# Altium schematic symbol library kmilo17pet-Maxim_Sensors.SchLib: 1172 symbols (part 29 of 61)
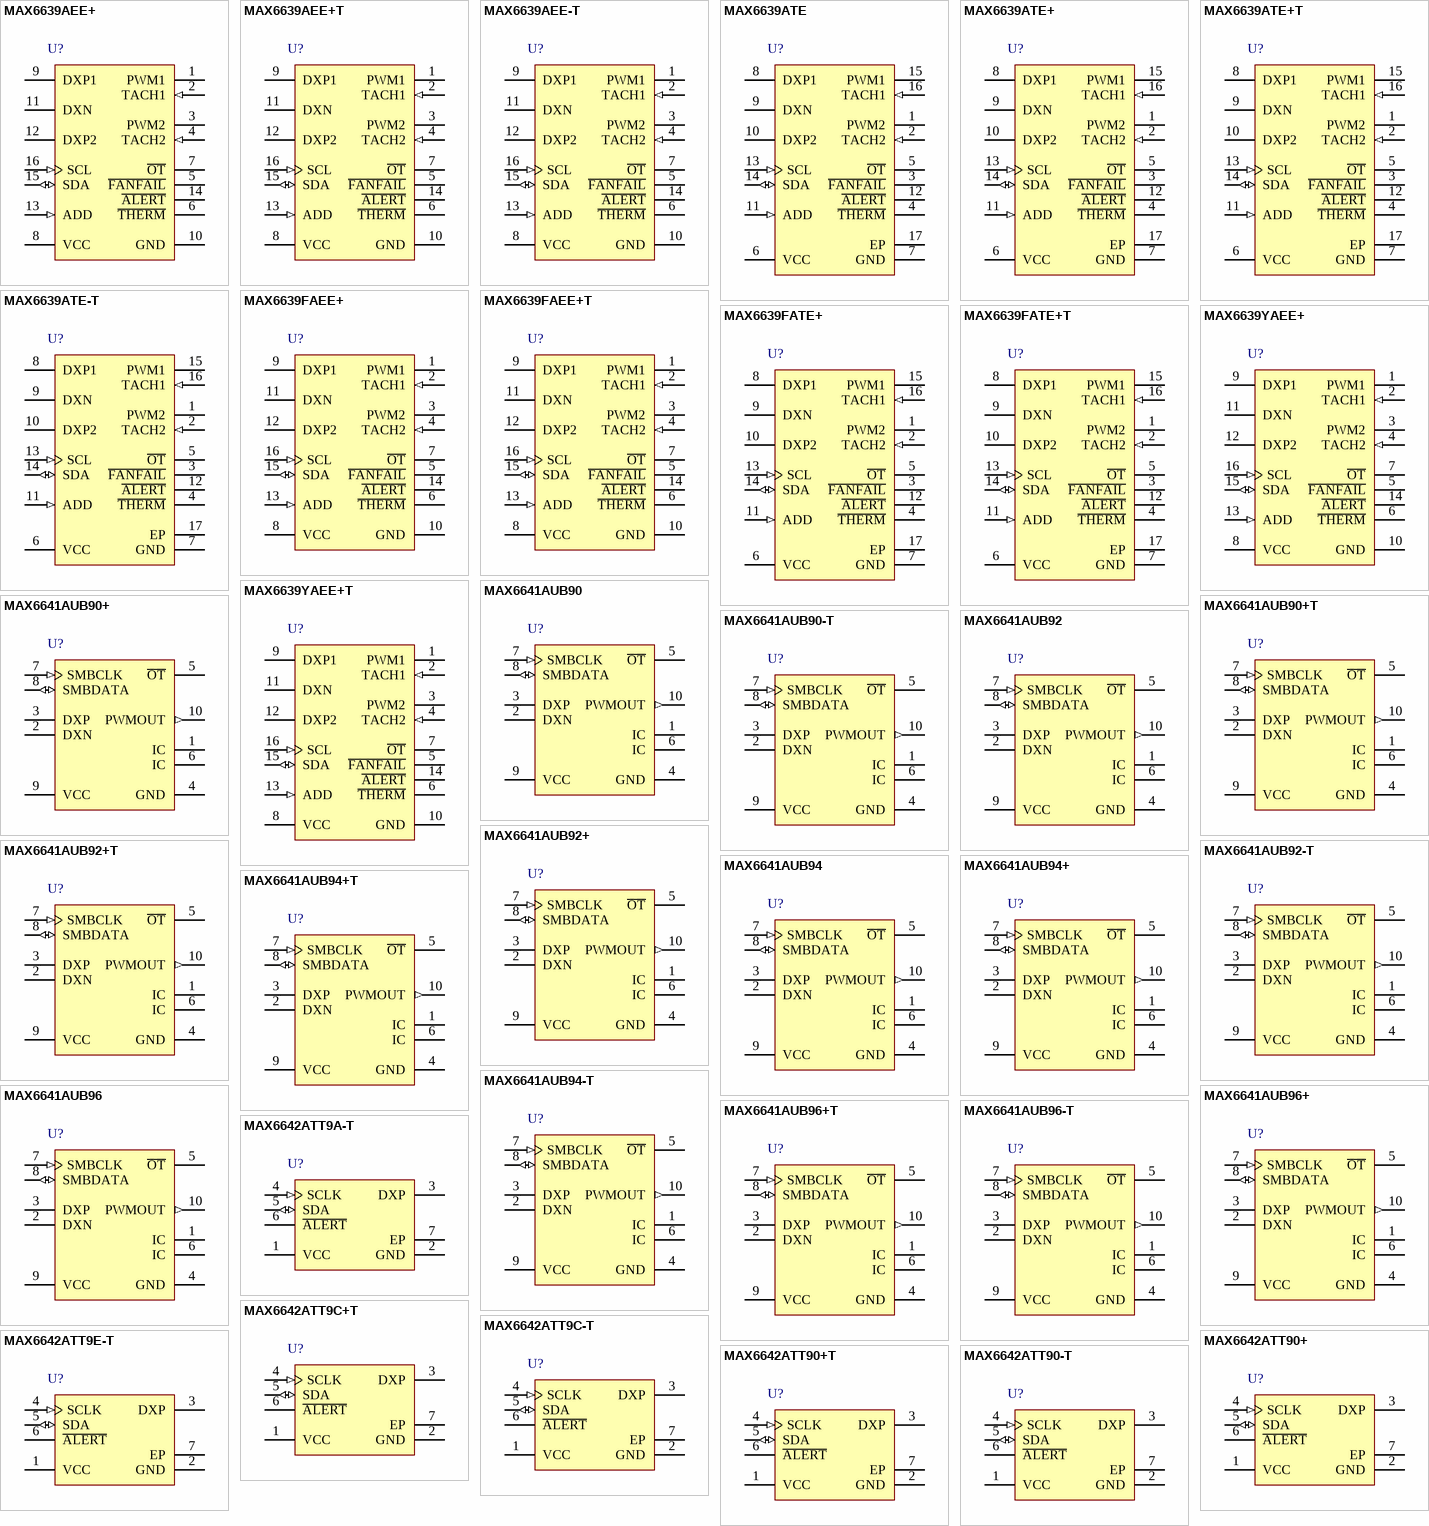
[diagram p61: symbols MAX6639AEE+ to MAX6642ATT90-T]

## MAX6639ATE
designator U?
2-Channel Temperature Monitor with Dual, Automatic, PWM Fan-Speed Controller, -40 to 125 degC, 16-Pin QFN (T1655-3); Generic Part Number: MAX6639; PartNumber: MAX6639ATE; Fan Controller Functions: Remote & Local Sensor; Interface: 2-Wire/I2C/SMBus; DatasheetVersion: Rev. 2; PackageVersion: Rev. Q, 09/2011; PackageReference: T1655-3; PackageDescription: 16-Pin Thin Quad Flatpack, No Leads, Body 5 x 5 mm, Pitch 0.8 mm; Supplier 1: Mouser; Supplier Part Number 1: N/A; Fan Cntrl.: PWM; Mounting Technology: Surface Mount; Code_JEDEC: MO220; ComponentLink1Description: Manufacturer URL; ComponentLink1URL: http://www.maximintegrated.com/; ComponentLink2Description: Datasheet; ComponentLink2URL: http://datasheets.maximintegrated.com/en/ds/MAX6639-MAX6639F.pdf; ComponentLink3Description: Package Specification; ComponentLink3URL: http://pdfserv.maximintegrated.com/package_dwgs/21-0140.PDF
footprint MAXM-T1655-3_N (QFN, 16-Leads, Body 5x5mm, Pitch 0.8mm, Thermal Pad 3.1x3.1mm, IPC Medium Density)
footprint MAXM-T1655-3_L (QFN, 16-Leads, Body 5x5mm, Pitch 0.8mm, Thermal Pad 3.1x3.1mm, IPC High Density)
footprint MAXM-T1655-3_M (QFN, 16-Leads, Body 5x5mm, Pitch 0.8mm, Thermal Pad 3.1x3.1mm, IPC Low Density)
pins: 1 PWM2 (oc) "Open-Drain Output to Power-Transistor Driving Fan. Connect to the gate of a MOSFET or base of a bipolar transistor. PWM_ requires a pullup resistor. The pullup resistor can be connected to a supply voltage as high as 13.5V, (See Datasheet)", 2 TACH2 (in) "Tachometer Inputs. Connect to the tachometer output of the fan. TACH_ requires a pullup resistor. The pullup resistor can be connected to a supply voltage as high as 13.5V, regardless of the MAX6639’s supply voltage.", 3 ~{FANFAIL} (oc) "Active-Low, Open-Drain, Fan-Failure Output. Open circuit when VCC = 0.", 4 ~{THERM} (oc) "Active-Low, Open-Drain Thermal Alarm Output. Typically used for clock throttling. Open circuit when VCC = 0.", 5 ~{OT} (oc) "Active-Low, Open-Drain Overtemperature Output. Typically used for system shutdown or clock throttling. Can be pulled up to 5.5V regardless of VCC. Open circuit when VCC = 0.", 6 VCC (power) "Power-Supply Input. 3.3V nominal. Bypass VCC to GND with a 0.1uF capacitor.", 7 GND (power) "Ground. Connect to a clean ground reference.", 8 DXP1 "Combined Current Source and A/D Positive Input for Remote Diode. Connect to anode of remote-diode-connected temperture-sensing transistor. Do not leave unconnected; connect to DXN if no remote diode is used. Place a 2200pF (See Datasheet)", 9 DXN "Remote Diode Current Sink Input. Connect Cathode of the Remote-Diode- Connected Transistor to DXN", 10 DXP2 "Combined Current Source and A/D Positive Input for Remote Diode. Connect to anode of remote-diode-connected temperture-sensing transistor. Do not leave unconnected; connect to DXN if no remote diode is used. Place a 2200pF (See Datasheet)", 11 ADD (in) "Address Input. Sets device slave address. Connect to GND, VCC, or leave unconnected to give three unique addresses. See Table 1.", 12 ~{ALERT} (oc) "Active-Low, Open-Drain SMBus Alert Output", 13 SCL (in) "SMBus Serial-Clock Input. Can be pulled up to 5.5V regardless of VCC. Open circuit when VCC = 0.", 14 SDA (io) "SMBus Serial-Data Input/Output, Open Drain. Can be pulled up to 5.5V regardless of VCC. Open circuit when VCC = 0.", 15 PWM1 (oc) "Open-Drain Output to Power-Transistor Driving Fan. Connect to the gate of a MOSFET or base of a bipolar transistor. PWM_ requires a pullup resistor. The pullup resistor can be connected to a supply voltage as high as 13.5V, (See Datasheet)", 16 TACH1 (in) "Tachometer Inputs. Connect to the tachometer output of the fan. TACH_ requires a pullup resistor. The pullup resistor can be connected to a supply voltage as high as 13.5V, regardless of the MAX6639’s supply voltage.", 17 EP (power) "Exposed Pad (TQFN package only). Internally connected to GND. Connect EP to a large PCB pad for optimum performance and enhanced thermal dissipation. Not intended as an electrical connection point."

## MAX6639ATE+
designator U?
2-Channel Temperature Monitor with Dual, Automatic, PWM Fan-Speed Controller, -40 to 125 degC, 16-Pin QFN (T1655+3), Pb-Free; Generic Part Number: MAX6639; PartNumber: MAX6639ATE+; Fan Controller Functions: Remote & Local Sensor; Interface: 2-Wire/I2C/SMBus; DatasheetVersion: Rev. 2; PackageVersion: Rev. Q, 09/2011; PackageReference: T1655+3; PackageDescription: 16-Pin Thin Quad Flatpack, No Leads, Body 5 x 5 mm, Pitch 0.8 mm; Supplier 1: Digi-Key; Supplier Part Number 1: MAX6639ATE+-ND; Supplier 2: Mouser; Supplier Part Number 2: 700-MAX6639ATE; Fan Cntrl.: PWM; Mounting Technology: Surface Mount; Code_JEDEC: MO220; ComponentLink1Description: Manufacturer URL; ComponentLink1URL: http://www.maximintegrated.com/; ComponentLink2Description: Datasheet; ComponentLink2URL: http://datasheets.maximintegrated.com/en/ds/MAX6639-MAX6639F.pdf; ComponentLink3Description: Package Specification; ComponentLink3URL: http://pdfserv.maximintegrated.com/package_dwgs/21-0140.PDF
footprint MAXM-T1655+3_N (QFN, 16-Leads, Body 5x5mm, Pitch 0.8mm, Thermal Pad 3.1x3.1mm, IPC Medium Density)
footprint MAXM-T1655+3_L (QFN, 16-Leads, Body 5x5mm, Pitch 0.8mm, Thermal Pad 3.1x3.1mm, IPC High Density)
footprint MAXM-T1655+3_M (QFN, 16-Leads, Body 5x5mm, Pitch 0.8mm, Thermal Pad 3.1x3.1mm, IPC Low Density)
pins: 1 PWM2 (oc) "Open-Drain Output to Power-Transistor Driving Fan. Connect to the gate of a MOSFET or base of a bipolar transistor. PWM_ requires a pullup resistor. The pullup resistor can be connected to a supply voltage as high as 13.5V, (See Datasheet)", 2 TACH2 (in) "Tachometer Inputs. Connect to the tachometer output of the fan. TACH_ requires a pullup resistor. The pullup resistor can be connected to a supply voltage as high as 13.5V, regardless of the MAX6639’s supply voltage.", 3 ~{FANFAIL} (oc) "Active-Low, Open-Drain, Fan-Failure Output. Open circuit when VCC = 0.", 4 ~{THERM} (oc) "Active-Low, Open-Drain Thermal Alarm Output. Typically used for clock throttling. Open circuit when VCC = 0.", 5 ~{OT} (oc) "Active-Low, Open-Drain Overtemperature Output. Typically used for system shutdown or clock throttling. Can be pulled up to 5.5V regardless of VCC. Open circuit when VCC = 0.", 6 VCC (power) "Power-Supply Input. 3.3V nominal. Bypass VCC to GND with a 0.1uF capacitor.", 7 GND (power) "Ground. Connect to a clean ground reference.", 8 DXP1 "Combined Current Source and A/D Positive Input for Remote Diode. Connect to anode of remote-diode-connected temperture-sensing transistor. Do not leave unconnected; connect to DXN if no remote diode is used. Place a 2200pF (See Datasheet)", 9 DXN "Remote Diode Current Sink Input. Connect Cathode of the Remote-Diode- Connected Transistor to DXN", 10 DXP2 "Combined Current Source and A/D Positive Input for Remote Diode. Connect to anode of remote-diode-connected temperture-sensing transistor. Do not leave unconnected; connect to DXN if no remote diode is used. Place a 2200pF (See Datasheet)", 11 ADD (in) "Address Input. Sets device slave address. Connect to GND, VCC, or leave unconnected to give three unique addresses. See Table 1.", 12 ~{ALERT} (oc) "Active-Low, Open-Drain SMBus Alert Output", 13 SCL (in) "SMBus Serial-Clock Input. Can be pulled up to 5.5V regardless of VCC. Open circuit when VCC = 0.", 14 SDA (io) "SMBus Serial-Data Input/Output, Open Drain. Can be pulled up to 5.5V regardless of VCC. Open circuit when VCC = 0.", 15 PWM1 (oc) "Open-Drain Output to Power-Transistor Driving Fan. Connect to the gate of a MOSFET or base of a bipolar transistor. PWM_ requires a pullup resistor. The pullup resistor can be connected to a supply voltage as high as 13.5V, (See Datasheet)", 16 TACH1 (in) "Tachometer Inputs. Connect to the tachometer output of the fan. TACH_ requires a pullup resistor. The pullup resistor can be connected to a supply voltage as high as 13.5V, regardless of the MAX6639’s supply voltage.", 17 EP (power) "Exposed Pad (TQFN package only). Internally connected to GND. Connect EP to a large PCB pad for optimum performance and enhanced thermal dissipation. Not intended as an electrical connection point."

## MAX6639ATE+T
designator U?
2-Channel Temperature Monitor with Dual, Automatic, PWM Fan-Speed Controller, -40 to 125 degC, 16-Pin QFN (T1655+3), Pb-Free, Tape and Reel; Generic Part Number: MAX6639; PartNumber: MAX6639ATE+T; Fan Controller Functions: Remote & Local Sensor; Interface: 2-Wire/I2C/SMBus; DatasheetVersion: Rev. 2; PackageVersion: Rev. Q, 09/2011; PackageReference: T1655+3; PackageDescription: 16-Pin Thin Quad Flatpack, No Leads, Body 5 x 5 mm, Pitch 0.8 mm; Supplier 1: Digi-Key; Supplier Part Number 1: MAX6639ATE+T-ND; Supplier 2: Mouser; Supplier Part Number 2: 700-MAX6639ATET; Fan Cntrl.: PWM; Packing: Tape and Reel; Mounting Technology: Surface Mount; Code_JEDEC: MO220; ComponentLink1Description: Manufacturer URL; ComponentLink1URL: http://www.maximintegrated.com/; ComponentLink2Description: Datasheet; ComponentLink2URL: http://datasheets.maximintegrated.com/en/ds/MAX6639-MAX6639F.pdf; ComponentLink3Description: Package Specification; ComponentLink3URL: http://pdfserv.maximintegrated.com/package_dwgs/21-0140.PDF
footprint MAXM-T1655+3_N (QFN, 16-Leads, Body 5x5mm, Pitch 0.8mm, Thermal Pad 3.1x3.1mm, IPC Medium Density)
footprint MAXM-T1655+3_L (QFN, 16-Leads, Body 5x5mm, Pitch 0.8mm, Thermal Pad 3.1x3.1mm, IPC High Density)
footprint MAXM-T1655+3_M (QFN, 16-Leads, Body 5x5mm, Pitch 0.8mm, Thermal Pad 3.1x3.1mm, IPC Low Density)
pins: 1 PWM2 (oc) "Open-Drain Output to Power-Transistor Driving Fan. Connect to the gate of a MOSFET or base of a bipolar transistor. PWM_ requires a pullup resistor. The pullup resistor can be connected to a supply voltage as high as 13.5V, (See Datasheet)", 2 TACH2 (in) "Tachometer Inputs. Connect to the tachometer output of the fan. TACH_ requires a pullup resistor. The pullup resistor can be connected to a supply voltage as high as 13.5V, regardless of the MAX6639’s supply voltage.", 3 ~{FANFAIL} (oc) "Active-Low, Open-Drain, Fan-Failure Output. Open circuit when VCC = 0.", 4 ~{THERM} (oc) "Active-Low, Open-Drain Thermal Alarm Output. Typically used for clock throttling. Open circuit when VCC = 0.", 5 ~{OT} (oc) "Active-Low, Open-Drain Overtemperature Output. Typically used for system shutdown or clock throttling. Can be pulled up to 5.5V regardless of VCC. Open circuit when VCC = 0.", 6 VCC (power) "Power-Supply Input. 3.3V nominal. Bypass VCC to GND with a 0.1uF capacitor.", 7 GND (power) "Ground. Connect to a clean ground reference.", 8 DXP1 "Combined Current Source and A/D Positive Input for Remote Diode. Connect to anode of remote-diode-connected temperture-sensing transistor. Do not leave unconnected; connect to DXN if no remote diode is used. Place a 2200pF (See Datasheet)", 9 DXN "Remote Diode Current Sink Input. Connect Cathode of the Remote-Diode- Connected Transistor to DXN", 10 DXP2 "Combined Current Source and A/D Positive Input for Remote Diode. Connect to anode of remote-diode-connected temperture-sensing transistor. Do not leave unconnected; connect to DXN if no remote diode is used. Place a 2200pF (See Datasheet)", 11 ADD (in) "Address Input. Sets device slave address. Connect to GND, VCC, or leave unconnected to give three unique addresses. See Table 1.", 12 ~{ALERT} (oc) "Active-Low, Open-Drain SMBus Alert Output", 13 SCL (in) "SMBus Serial-Clock Input. Can be pulled up to 5.5V regardless of VCC. Open circuit when VCC = 0.", 14 SDA (io) "SMBus Serial-Data Input/Output, Open Drain. Can be pulled up to 5.5V regardless of VCC. Open circuit when VCC = 0.", 15 PWM1 (oc) "Open-Drain Output to Power-Transistor Driving Fan. Connect to the gate of a MOSFET or base of a bipolar transistor. PWM_ requires a pullup resistor. The pullup resistor can be connected to a supply voltage as high as 13.5V, (See Datasheet)", 16 TACH1 (in) "Tachometer Inputs. Connect to the tachometer output of the fan. TACH_ requires a pullup resistor. The pullup resistor can be connected to a supply voltage as high as 13.5V, regardless of the MAX6639’s supply voltage.", 17 EP (power) "Exposed Pad (TQFN package only). Internally connected to GND. Connect EP to a large PCB pad for optimum performance and enhanced thermal dissipation. Not intended as an electrical connection point."

## MAX6639ATE-T
designator U?
2-Channel Temperature Monitor with Dual, Automatic, PWM Fan-Speed Controller, -40 to 125 degC, 16-Pin QFN (T1655-3), Tape and Reel; Generic Part Number: MAX6639; PartNumber: MAX6639ATE-T; Fan Controller Functions: Remote & Local Sensor; Interface: 2-Wire/I2C/SMBus; DatasheetVersion: Rev. 2; PackageVersion: Rev. Q, 09/2011; PackageReference: T1655-3; PackageDescription: 16-Pin Thin Quad Flatpack, No Leads, Body 5 x 5 mm, Pitch 0.8 mm; Supplier 1: Mouser; Supplier Part Number 1: N/A; Fan Cntrl.: PWM; Packing: Tape and Reel; Mounting Technology: Surface Mount; Code_JEDEC: MO220; ComponentLink1Description: Manufacturer URL; ComponentLink1URL: http://www.maximintegrated.com/; ComponentLink2Description: Datasheet; ComponentLink2URL: http://datasheets.maximintegrated.com/en/ds/MAX6639-MAX6639F.pdf; ComponentLink3Description: Package Specification; ComponentLink3URL: http://pdfserv.maximintegrated.com/package_dwgs/21-0140.PDF
footprint MAXM-T1655-3_N (QFN, 16-Leads, Body 5x5mm, Pitch 0.8mm, Thermal Pad 3.1x3.1mm, IPC Medium Density)
footprint MAXM-T1655-3_L (QFN, 16-Leads, Body 5x5mm, Pitch 0.8mm, Thermal Pad 3.1x3.1mm, IPC High Density)
footprint MAXM-T1655-3_M (QFN, 16-Leads, Body 5x5mm, Pitch 0.8mm, Thermal Pad 3.1x3.1mm, IPC Low Density)
pins: 1 PWM2 (oc) "Open-Drain Output to Power-Transistor Driving Fan. Connect to the gate of a MOSFET or base of a bipolar transistor. PWM_ requires a pullup resistor. The pullup resistor can be connected to a supply voltage as high as 13.5V, (See Datasheet)", 2 TACH2 (in) "Tachometer Inputs. Connect to the tachometer output of the fan. TACH_ requires a pullup resistor. The pullup resistor can be connected to a supply voltage as high as 13.5V, regardless of the MAX6639’s supply voltage.", 3 ~{FANFAIL} (oc) "Active-Low, Open-Drain, Fan-Failure Output. Open circuit when VCC = 0.", 4 ~{THERM} (oc) "Active-Low, Open-Drain Thermal Alarm Output. Typically used for clock throttling. Open circuit when VCC = 0.", 5 ~{OT} (oc) "Active-Low, Open-Drain Overtemperature Output. Typically used for system shutdown or clock throttling. Can be pulled up to 5.5V regardless of VCC. Open circuit when VCC = 0.", 6 VCC (power) "Power-Supply Input. 3.3V nominal. Bypass VCC to GND with a 0.1uF capacitor.", 7 GND (power) "Ground. Connect to a clean ground reference.", 8 DXP1 "Combined Current Source and A/D Positive Input for Remote Diode. Connect to anode of remote-diode-connected temperture-sensing transistor. Do not leave unconnected; connect to DXN if no remote diode is used. Place a 2200pF (See Datasheet)", 9 DXN "Remote Diode Current Sink Input. Connect Cathode of the Remote-Diode- Connected Transistor to DXN", 10 DXP2 "Combined Current Source and A/D Positive Input for Remote Diode. Connect to anode of remote-diode-connected temperture-sensing transistor. Do not leave unconnected; connect to DXN if no remote diode is used. Place a 2200pF (See Datasheet)", 11 ADD (in) "Address Input. Sets device slave address. Connect to GND, VCC, or leave unconnected to give three unique addresses. See Table 1.", 12 ~{ALERT} (oc) "Active-Low, Open-Drain SMBus Alert Output", 13 SCL (in) "SMBus Serial-Clock Input. Can be pulled up to 5.5V regardless of VCC. Open circuit when VCC = 0.", 14 SDA (io) "SMBus Serial-Data Input/Output, Open Drain. Can be pulled up to 5.5V regardless of VCC. Open circuit when VCC = 0.", 15 PWM1 (oc) "Open-Drain Output to Power-Transistor Driving Fan. Connect to the gate of a MOSFET or base of a bipolar transistor. PWM_ requires a pullup resistor. The pullup resistor can be connected to a supply voltage as high as 13.5V, (See Datasheet)", 16 TACH1 (in) "Tachometer Inputs. Connect to the tachometer output of the fan. TACH_ requires a pullup resistor. The pullup resistor can be connected to a supply voltage as high as 13.5V, regardless of the MAX6639’s supply voltage.", 17 EP (power) "Exposed Pad (TQFN package only). Internally connected to GND. Connect EP to a large PCB pad for optimum performance and enhanced thermal dissipation. Not intended as an electrical connection point."

## MAX6639FAEE+
designator U?
2-Channel Temperature Monitor with Dual, Automatic, PWM Fan-Speed Controller, -40 to 125 degC, 16-Pin SOP (E16+1), Pb-Free; Generic Part Number: MAX6639F; PartNumber: MAX6639FAEE+; Fan Controller Functions: Remote & Local Sensor; Interface: 2-Wire/I2C/SMBus; DatasheetVersion: Rev. 2; PackageVersion: Rev. K, 04/2012; PackageReference: E16+1; PackageDescription: 16-Pin Quarter Small-Outline Package (E16+1), Body 4.90 x 3.89 mm, Pitch 0.635 mm; Supplier 1: Digi-Key; Supplier Part Number 1: MAX6639FAEE+-ND; Supplier 2: Mouser; Supplier Part Number 2: 700-MAX6639FAEE; Fan Cntrl.: PWM; Mounting Technology: Surface Mount; Code_JEDEC: MO137; ComponentLink1Description: Manufacturer URL; ComponentLink1URL: http://www.maximintegrated.com/; ComponentLink2Description: Datasheet; ComponentLink2URL: http://datasheets.maximintegrated.com/en/ds/MAX6639-MAX6639F.pdf; ComponentLink3Description: Package Specification; ComponentLink3URL: http://pdfserv.maximintegrated.com/package_dwgs/21-0055.PDF
footprint MAXM-E16+1_N (SOP, 16-Leads, Body 4.9x3.89mm, Pitch 0.635mm, IPC Medium Density)
footprint MAXM-E16+1_L (SOP, 16-Leads, Body 4.9x3.89mm, Pitch 0.635mm, IPC High Density)
footprint MAXM-E16+1_M (SOP, 16-Leads, Body 4.9x3.89mm, Pitch 0.635mm, IPC Low Density)
pins: 1 PWM1 (oc) "Open-Drain Output to Power-Transistor Driving Fan. Connect to the gate of a MOSFET or base of a bipolar transistor. PWM_ requires a pullup resistor. The pullup resistor can be connected to a supply voltage as high as 13.5V, (See Datasheet)", 2 TACH1 (in) "Tachometer Inputs. Connect to the tachometer output of the fan. TACH_ requires a pullup resistor. The pullup resistor can be connected to a supply voltage as high as 13.5V, regardless of the MAX6639’s supply voltage.", 3 PWM2 (oc) "Open-Drain Output to Power-Transistor Driving Fan. Connect to the gate of a MOSFET or base of a bipolar transistor. PWM_ requires a pullup resistor. The pullup resistor can be connected to a supply voltage as high as 13.5V, (See Datasheet)", 4 TACH2 (in) "Tachometer Inputs. Connect to the tachometer output of the fan. TACH_ requires a pullup resistor. The pullup resistor can be connected to a supply voltage as high as 13.5V, regardless of the MAX6639’s supply voltage.", 5 ~{FANFAIL} (oc) "Active-Low, Open-Drain, Fan-Failure Output. Open circuit when VCC = 0.", 6 ~{THERM} (oc) "Active-Low, Open-Drain Thermal Alarm Output. Typically used for clock throttling. Open circuit when VCC = 0.", 7 ~{OT} (oc) "Active-Low, Open-Drain Overtemperature Output. Typically used for system shutdown or clock throttling. Can be pulled up to 5.5V regardless of VCC. Open circuit when VCC = 0.", 8 VCC (power) "Power-Supply Input. 3.3V nominal. Bypass VCC to GND with a 0.1uF capacitor.", 9 DXP1 "Combined Current Source and A/D Positive Input for Remote Diode. Connect to anode of remote-diode-connected temperture-sensing transistor. Do not leave unconnected; connect to DXN if no remote diode is used. Place a 2200pF (See Datasheet)", 10 GND (power) "Ground. Connect to a clean ground reference.", 11 DXN "Remote Diode Current Sink Input. Connect Cathode of the Remote-Diode- Connected Transistor to DXN", 12 DXP2 "Combined Current Source and A/D Positive Input for Remote Diode. Connect to anode of remote-diode-connected temperture-sensing transistor. Do not leave unconnected; connect to DXN if no remote diode is used. Place a 2200pF (See Datasheet)", 13 ADD (in) "Address Input. Sets device slave address. Connect to GND, VCC, or leave unconnected to give three unique addresses. See Table 1.", 14 ~{ALERT} (oc) "Active-Low, Open-Drain SMBus Alert Output", 15 SDA (io) "SMBus Serial-Data Input/Output, Open Drain. Can be pulled up to 5.5V regardless of VCC. Open circuit when VCC = 0.", 16 SCL (in) "SMBus Serial-Clock Input. Can be pulled up to 5.5V regardless of VCC. Open circuit when VCC = 0."

## MAX6639FAEE+T
designator U?
2-Channel Temperature Monitor with Dual, Automatic, PWM Fan-Speed Controller, -40 to 125 degC, 16-Pin SOP (E16+1), Pb-Free, Tape and Reel; Generic Part Number: MAX6639F; PartNumber: MAX6639FAEE+T; Fan Controller Functions: Remote & Local Sensor; Interface: 2-Wire/I2C/SMBus; DatasheetVersion: Rev. 2; PackageVersion: Rev. K, 04/2012; PackageReference: E16+1; PackageDescription: 16-Pin Quarter Small-Outline Package (E16+1), Body 4.90 x 3.89 mm, Pitch 0.635 mm; Supplier 1: Digi-Key; Supplier Part Number 1: MAX6639FAEE+T-ND; Supplier 2: Mouser; Supplier Part Number 2: 700-MAX6639FAEE+T; Fan Cntrl.: PWM; Packing: Tape and Reel; Mounting Technology: Surface Mount; Code_JEDEC: MO137; ComponentLink1Description: Manufacturer URL; ComponentLink1URL: http://www.maximintegrated.com/; ComponentLink2Description: Datasheet; ComponentLink2URL: http://datasheets.maximintegrated.com/en/ds/MAX6639-MAX6639F.pdf; ComponentLink3Description: Package Specification; ComponentLink3URL: http://pdfserv.maximintegrated.com/package_dwgs/21-0055.PDF
footprint MAXM-E16+1_N (SOP, 16-Leads, Body 4.9x3.89mm, Pitch 0.635mm, IPC Medium Density)
footprint MAXM-E16+1_L (SOP, 16-Leads, Body 4.9x3.89mm, Pitch 0.635mm, IPC High Density)
footprint MAXM-E16+1_M (SOP, 16-Leads, Body 4.9x3.89mm, Pitch 0.635mm, IPC Low Density)
pins: 1 PWM1 (oc) "Open-Drain Output to Power-Transistor Driving Fan. Connect to the gate of a MOSFET or base of a bipolar transistor. PWM_ requires a pullup resistor. The pullup resistor can be connected to a supply voltage as high as 13.5V, (See Datasheet)", 2 TACH1 (in) "Tachometer Inputs. Connect to the tachometer output of the fan. TACH_ requires a pullup resistor. The pullup resistor can be connected to a supply voltage as high as 13.5V, regardless of the MAX6639’s supply voltage.", 3 PWM2 (oc) "Open-Drain Output to Power-Transistor Driving Fan. Connect to the gate of a MOSFET or base of a bipolar transistor. PWM_ requires a pullup resistor. The pullup resistor can be connected to a supply voltage as high as 13.5V, (See Datasheet)", 4 TACH2 (in) "Tachometer Inputs. Connect to the tachometer output of the fan. TACH_ requires a pullup resistor. The pullup resistor can be connected to a supply voltage as high as 13.5V, regardless of the MAX6639’s supply voltage.", 5 ~{FANFAIL} (oc) "Active-Low, Open-Drain, Fan-Failure Output. Open circuit when VCC = 0.", 6 ~{THERM} (oc) "Active-Low, Open-Drain Thermal Alarm Output. Typically used for clock throttling. Open circuit when VCC = 0.", 7 ~{OT} (oc) "Active-Low, Open-Drain Overtemperature Output. Typically used for system shutdown or clock throttling. Can be pulled up to 5.5V regardless of VCC. Open circuit when VCC = 0.", 8 VCC (power) "Power-Supply Input. 3.3V nominal. Bypass VCC to GND with a 0.1uF capacitor.", 9 DXP1 "Combined Current Source and A/D Positive Input for Remote Diode. Connect to anode of remote-diode-connected temperture-sensing transistor. Do not leave unconnected; connect to DXN if no remote diode is used. Place a 2200pF (See Datasheet)", 10 GND (power) "Ground. Connect to a clean ground reference.", 11 DXN "Remote Diode Current Sink Input. Connect Cathode of the Remote-Diode- Connected Transistor to DXN", 12 DXP2 "Combined Current Source and A/D Positive Input for Remote Diode. Connect to anode of remote-diode-connected temperture-sensing transistor. Do not leave unconnected; connect to DXN if no remote diode is used. Place a 2200pF (See Datasheet)", 13 ADD (in) "Address Input. Sets device slave address. Connect to GND, VCC, or leave unconnected to give three unique addresses. See Table 1.", 14 ~{ALERT} (oc) "Active-Low, Open-Drain SMBus Alert Output", 15 SDA (io) "SMBus Serial-Data Input/Output, Open Drain. Can be pulled up to 5.5V regardless of VCC. Open circuit when VCC = 0.", 16 SCL (in) "SMBus Serial-Clock Input. Can be pulled up to 5.5V regardless of VCC. Open circuit when VCC = 0."

## MAX6639FATE+
designator U?
2-Channel Temperature Monitor with Dual, Automatic, PWM Fan-Speed Controller, -40 to 125 degC, 16-Pin QFN (T1655+3), Pb-Free; Generic Part Number: MAX6639F; PartNumber: MAX6639FATE+; Fan Controller Functions: Remote & Local Sensor; Interface: 2-Wire/I2C/SMBus; DatasheetVersion: Rev. 2; PackageVersion: Rev. Q, 09/2011; PackageReference: T1655+3; PackageDescription: 16-Pin Thin Quad Flatpack, No Leads, Body 5 x 5 mm, Pitch 0.8 mm; Supplier 1: Digi-Key; Supplier Part Number 1: MAX6639FATE+-ND; Supplier 2: Mouser; Supplier Part Number 2: 700-MAX6639FATE; Fan Cntrl.: PWM; Mounting Technology: Surface Mount; Code_JEDEC: MO220; ComponentLink1Description: Manufacturer URL; ComponentLink1URL: http://www.maximintegrated.com/; ComponentLink2Description: Datasheet; ComponentLink2URL: http://datasheets.maximintegrated.com/en/ds/MAX6639-MAX6639F.pdf; ComponentLink3Description: Package Specification; ComponentLink3URL: http://pdfserv.maximintegrated.com/package_dwgs/21-0140.PDF
footprint MAXM-T1655+3_N (QFN, 16-Leads, Body 5x5mm, Pitch 0.8mm, Thermal Pad 3.1x3.1mm, IPC Medium Density)
footprint MAXM-T1655+3_L (QFN, 16-Leads, Body 5x5mm, Pitch 0.8mm, Thermal Pad 3.1x3.1mm, IPC High Density)
footprint MAXM-T1655+3_M (QFN, 16-Leads, Body 5x5mm, Pitch 0.8mm, Thermal Pad 3.1x3.1mm, IPC Low Density)
pins: 1 PWM2 (oc) "Open-Drain Output to Power-Transistor Driving Fan. Connect to the gate of a MOSFET or base of a bipolar transistor. PWM_ requires a pullup resistor. The pullup resistor can be connected to a supply voltage as high as 13.5V, (See Datasheet)", 2 TACH2 (in) "Tachometer Inputs. Connect to the tachometer output of the fan. TACH_ requires a pullup resistor. The pullup resistor can be connected to a supply voltage as high as 13.5V, regardless of the MAX6639’s supply voltage.", 3 ~{FANFAIL} (oc) "Active-Low, Open-Drain, Fan-Failure Output. Open circuit when VCC = 0.", 4 ~{THERM} (oc) "Active-Low, Open-Drain Thermal Alarm Output. Typically used for clock throttling. Open circuit when VCC = 0.", 5 ~{OT} (oc) "Active-Low, Open-Drain Overtemperature Output. Typically used for system shutdown or clock throttling. Can be pulled up to 5.5V regardless of VCC. Open circuit when VCC = 0.", 6 VCC (power) "Power-Supply Input. 3.3V nominal. Bypass VCC to GND with a 0.1uF capacitor.", 7 GND (power) "Ground. Connect to a clean ground reference.", 8 DXP1 "Combined Current Source and A/D Positive Input for Remote Diode. Connect to anode of remote-diode-connected temperture-sensing transistor. Do not leave unconnected; connect to DXN if no remote diode is used. Place a 2200pF (See Datasheet)", 9 DXN "Remote Diode Current Sink Input. Connect Cathode of the Remote-Diode- Connected Transistor to DXN", 10 DXP2 "Combined Current Source and A/D Positive Input for Remote Diode. Connect to anode of remote-diode-connected temperture-sensing transistor. Do not leave unconnected; connect to DXN if no remote diode is used. Place a 2200pF (See Datasheet)", 11 ADD (in) "Address Input. Sets device slave address. Connect to GND, VCC, or leave unconnected to give three unique addresses. See Table 1.", 12 ~{ALERT} (oc) "Active-Low, Open-Drain SMBus Alert Output", 13 SCL (in) "SMBus Serial-Clock Input. Can be pulled up to 5.5V regardless of VCC. Open circuit when VCC = 0.", 14 SDA (io) "SMBus Serial-Data Input/Output, Open Drain. Can be pulled up to 5.5V regardless of VCC. Open circuit when VCC = 0.", 15 PWM1 (oc) "Open-Drain Output to Power-Transistor Driving Fan. Connect to the gate of a MOSFET or base of a bipolar transistor. PWM_ requires a pullup resistor. The pullup resistor can be connected to a supply voltage as high as 13.5V, (See Datasheet)", 16 TACH1 (in) "Tachometer Inputs. Connect to the tachometer output of the fan. TACH_ requires a pullup resistor. The pullup resistor can be connected to a supply voltage as high as 13.5V, regardless of the MAX6639’s supply voltage.", 17 EP (power) "Exposed Pad (TQFN package only). Internally connected to GND. Connect EP to a large PCB pad for optimum performance and enhanced thermal dissipation. Not intended as an electrical connection point."

## MAX6639FATE+T
designator U?
2-Channel Temperature Monitor with Dual, Automatic, PWM Fan-Speed Controller, -40 to 125 degC, 16-Pin QFN (T1655+3), Pb-Free, Tape and Reel; Generic Part Number: MAX6639F; PartNumber: MAX6639FATE+T; Fan Controller Functions: Remote & Local Sensor; Interface: 2-Wire/I2C/SMBus; DatasheetVersion: Rev. 2; PackageVersion: Rev. Q, 09/2011; PackageReference: T1655+3; PackageDescription: 16-Pin Thin Quad Flatpack, No Leads, Body 5 x 5 mm, Pitch 0.8 mm; Supplier 1: Digi-Key; Supplier Part Number 1: MAX6639FATE+T-ND; Supplier 2: Mouser; Supplier Part Number 2: 700-MAX6639FATE+T; Fan Cntrl.: PWM; Packing: Tape and Reel; Mounting Technology: Surface Mount; Code_JEDEC: MO220; ComponentLink1Description: Manufacturer URL; ComponentLink1URL: http://www.maximintegrated.com/; ComponentLink2Description: Datasheet; ComponentLink2URL: http://datasheets.maximintegrated.com/en/ds/MAX6639-MAX6639F.pdf; ComponentLink3Description: Package Specification; ComponentLink3URL: http://pdfserv.maximintegrated.com/package_dwgs/21-0140.PDF
footprint MAXM-T1655+3_N (QFN, 16-Leads, Body 5x5mm, Pitch 0.8mm, Thermal Pad 3.1x3.1mm, IPC Medium Density)
footprint MAXM-T1655+3_L (QFN, 16-Leads, Body 5x5mm, Pitch 0.8mm, Thermal Pad 3.1x3.1mm, IPC High Density)
footprint MAXM-T1655+3_M (QFN, 16-Leads, Body 5x5mm, Pitch 0.8mm, Thermal Pad 3.1x3.1mm, IPC Low Density)
pins: 1 PWM2 (oc) "Open-Drain Output to Power-Transistor Driving Fan. Connect to the gate of a MOSFET or base of a bipolar transistor. PWM_ requires a pullup resistor. The pullup resistor can be connected to a supply voltage as high as 13.5V, (See Datasheet)", 2 TACH2 (in) "Tachometer Inputs. Connect to the tachometer output of the fan. TACH_ requires a pullup resistor. The pullup resistor can be connected to a supply voltage as high as 13.5V, regardless of the MAX6639’s supply voltage.", 3 ~{FANFAIL} (oc) "Active-Low, Open-Drain, Fan-Failure Output. Open circuit when VCC = 0.", 4 ~{THERM} (oc) "Active-Low, Open-Drain Thermal Alarm Output. Typically used for clock throttling. Open circuit when VCC = 0.", 5 ~{OT} (oc) "Active-Low, Open-Drain Overtemperature Output. Typically used for system shutdown or clock throttling. Can be pulled up to 5.5V regardless of VCC. Open circuit when VCC = 0.", 6 VCC (power) "Power-Supply Input. 3.3V nominal. Bypass VCC to GND with a 0.1uF capacitor.", 7 GND (power) "Ground. Connect to a clean ground reference.", 8 DXP1 "Combined Current Source and A/D Positive Input for Remote Diode. Connect to anode of remote-diode-connected temperture-sensing transistor. Do not leave unconnected; connect to DXN if no remote diode is used. Place a 2200pF (See Datasheet)", 9 DXN "Remote Diode Current Sink Input. Connect Cathode of the Remote-Diode- Connected Transistor to DXN", 10 DXP2 "Combined Current Source and A/D Positive Input for Remote Diode. Connect to anode of remote-diode-connected temperture-sensing transistor. Do not leave unconnected; connect to DXN if no remote diode is used. Place a 2200pF (See Datasheet)", 11 ADD (in) "Address Input. Sets device slave address. Connect to GND, VCC, or leave unconnected to give three unique addresses. See Table 1.", 12 ~{ALERT} (oc) "Active-Low, Open-Drain SMBus Alert Output", 13 SCL (in) "SMBus Serial-Clock Input. Can be pulled up to 5.5V regardless of VCC. Open circuit when VCC = 0.", 14 SDA (io) "SMBus Serial-Data Input/Output, Open Drain. Can be pulled up to 5.5V regardless of VCC. Open circuit when VCC = 0.", 15 PWM1 (oc) "Open-Drain Output to Power-Transistor Driving Fan. Connect to the gate of a MOSFET or base of a bipolar transistor. PWM_ requires a pullup resistor. The pullup resistor can be connected to a supply voltage as high as 13.5V, (See Datasheet)", 16 TACH1 (in) "Tachometer Inputs. Connect to the tachometer output of the fan. TACH_ requires a pullup resistor. The pullup resistor can be connected to a supply voltage as high as 13.5V, regardless of the MAX6639’s supply voltage.", 17 EP (power) "Exposed Pad (TQFN package only). Internally connected to GND. Connect EP to a large PCB pad for optimum performance and enhanced thermal dissipation. Not intended as an electrical connection point."

## MAX6639YAEE+
designator U?
2-Channel Temperature Monitor with Dual, Automatic, PWM Fan-Speed Controller, -40 to 125 degC, 16-Pin SOP (E16+1), Pb-Free; Generic Part Number: MAX6639; PartNumber: MAX6639YAEE+; Fan Controller Functions: Remote & Local Sensor; Interface: 2-Wire/I2C/SMBus; DatasheetVersion: Rev. 2; PackageVersion: Rev. K, 04/2012; PackageReference: E16+1; PackageDescription: 16-Pin Quarter Small-Outline Package (E16+1), Body 4.90 x 3.89 mm, Pitch 0.635 mm; Supplier 1: Digi-Key; Supplier Part Number 1: MAX6639YAEE+-ND; Supplier 2: Mouser; Supplier Part Number 2: 700-MAX6639YAEE; Fan Cntrl.: PWM; Mounting Technology: Surface Mount; Code_JEDEC: MO137; ComponentLink1Description: Manufacturer URL; ComponentLink1URL: http://www.maximintegrated.com/; ComponentLink2Description: Datasheet; ComponentLink2URL: http://datasheets.maximintegrated.com/en/ds/MAX6639-MAX6639F.pdf; ComponentLink3Description: Package Specification; ComponentLink3URL: http://pdfserv.maximintegrated.com/package_dwgs/21-0055.PDF
footprint MAXM-E16+1_N (SOP, 16-Leads, Body 4.9x3.89mm, Pitch 0.635mm, IPC Medium Density)
footprint MAXM-E16+1_L (SOP, 16-Leads, Body 4.9x3.89mm, Pitch 0.635mm, IPC High Density)
footprint MAXM-E16+1_M (SOP, 16-Leads, Body 4.9x3.89mm, Pitch 0.635mm, IPC Low Density)
pins: 1 PWM1 (oc) "Open-Drain Output to Power-Transistor Driving Fan. Connect to the gate of a MOSFET or base of a bipolar transistor. PWM_ requires a pullup resistor. The pullup resistor can be connected to a supply voltage as high as 13.5V, (See Datasheet)", 2 TACH1 (in) "Tachometer Inputs. Connect to the tachometer output of the fan. TACH_ requires a pullup resistor. The pullup resistor can be connected to a supply voltage as high as 13.5V, regardless of the MAX6639’s supply voltage.", 3 PWM2 (oc) "Open-Drain Output to Power-Transistor Driving Fan. Connect to the gate of a MOSFET or base of a bipolar transistor. PWM_ requires a pullup resistor. The pullup resistor can be connected to a supply voltage as high as 13.5V, (See Datasheet)", 4 TACH2 (in) "Tachometer Inputs. Connect to the tachometer output of the fan. TACH_ requires a pullup resistor. The pullup resistor can be connected to a supply voltage as high as 13.5V, regardless of the MAX6639’s supply voltage.", 5 ~{FANFAIL} (oc) "Active-Low, Open-Drain, Fan-Failure Output. Open circuit when VCC = 0.", 6 ~{THERM} (oc) "Active-Low, Open-Drain Thermal Alarm Output. Typically used for clock throttling. Open circuit when VCC = 0.", 7 ~{OT} (oc) "Active-Low, Open-Drain Overtemperature Output. Typically used for system shutdown or clock throttling. Can be pulled up to 5.5V regardless of VCC. Open circuit when VCC = 0.", 8 VCC (power) "Power-Supply Input. 3.3V nominal. Bypass VCC to GND with a 0.1uF capacitor.", 9 DXP1 "Combined Current Source and A/D Positive Input for Remote Diode. Connect to anode of remote-diode-connected temperture-sensing transistor. Do not leave unconnected; connect to DXN if no remote diode is used. Place a 2200pF (See Datasheet)", 10 GND (power) "Ground. Connect to a clean ground reference.", 11 DXN "Remote Diode Current Sink Input. Connect Cathode of the Remote-Diode- Connected Transistor to DXN", 12 DXP2 "Combined Current Source and A/D Positive Input for Remote Diode. Connect to anode of remote-diode-connected temperture-sensing transistor. Do not leave unconnected; connect to DXN if no remote diode is used. Place a 2200pF (See Datasheet)", 13 ADD (in) "Address Input. Sets device slave address. Connect to GND, VCC, or leave unconnected to give three unique addresses. See Table 1.", 14 ~{ALERT} (oc) "Active-Low, Open-Drain SMBus Alert Output", 15 SDA (io) "SMBus Serial-Data Input/Output, Open Drain. Can be pulled up to 5.5V regardless of VCC. Open circuit when VCC = 0.", 16 SCL (in) "SMBus Serial-Clock Input. Can be pulled up to 5.5V regardless of VCC. Open circuit when VCC = 0."

## MAX6639YAEE+T
designator U?
2-Channel Temperature Monitor with Dual, Automatic, PWM Fan-Speed Controller, -40 to 125 degC, 16-Pin SOP (E16+1), Pb-Free, Tape and Reel; Generic Part Number: MAX6639; PartNumber: MAX6639YAEE+T; Fan Controller Functions: Remote & Local Sensor; Interface: 2-Wire/I2C/SMBus; DatasheetVersion: Rev. 2; PackageVersion: Rev. K, 04/2012; PackageReference: E16+1; PackageDescription: 16-Pin Quarter Small-Outline Package (E16+1), Body 4.90 x 3.89 mm, Pitch 0.635 mm; Supplier 1: Digi-Key; Supplier Part Number 1: MAX6639YAEE+T-ND; Supplier 2: Mouser; Supplier Part Number 2: 700-MAX6639YAEET; Fan Cntrl.: PWM; Packing: Tape and Reel; Mounting Technology: Surface Mount; Code_JEDEC: MO137; ComponentLink1Description: Manufacturer URL; ComponentLink1URL: http://www.maximintegrated.com/; ComponentLink2Description: Datasheet; ComponentLink2URL: http://datasheets.maximintegrated.com/en/ds/MAX6639-MAX6639F.pdf; ComponentLink3Description: Package Specification; ComponentLink3URL: http://pdfserv.maximintegrated.com/package_dwgs/21-0055.PDF
footprint MAXM-E16+1_N (SOP, 16-Leads, Body 4.9x3.89mm, Pitch 0.635mm, IPC Medium Density)
footprint MAXM-E16+1_L (SOP, 16-Leads, Body 4.9x3.89mm, Pitch 0.635mm, IPC High Density)
footprint MAXM-E16+1_M (SOP, 16-Leads, Body 4.9x3.89mm, Pitch 0.635mm, IPC Low Density)
pins: 1 PWM1 (oc) "Open-Drain Output to Power-Transistor Driving Fan. Connect to the gate of a MOSFET or base of a bipolar transistor. PWM_ requires a pullup resistor. The pullup resistor can be connected to a supply voltage as high as 13.5V, (See Datasheet)", 2 TACH1 (in) "Tachometer Inputs. Connect to the tachometer output of the fan. TACH_ requires a pullup resistor. The pullup resistor can be connected to a supply voltage as high as 13.5V, regardless of the MAX6639’s supply voltage.", 3 PWM2 (oc) "Open-Drain Output to Power-Transistor Driving Fan. Connect to the gate of a MOSFET or base of a bipolar transistor. PWM_ requires a pullup resistor. The pullup resistor can be connected to a supply voltage as high as 13.5V, (See Datasheet)", 4 TACH2 (in) "Tachometer Inputs. Connect to the tachometer output of the fan. TACH_ requires a pullup resistor. The pullup resistor can be connected to a supply voltage as high as 13.5V, regardless of the MAX6639’s supply voltage.", 5 ~{FANFAIL} (oc) "Active-Low, Open-Drain, Fan-Failure Output. Open circuit when VCC = 0.", 6 ~{THERM} (oc) "Active-Low, Open-Drain Thermal Alarm Output. Typically used for clock throttling. Open circuit when VCC = 0.", 7 ~{OT} (oc) "Active-Low, Open-Drain Overtemperature Output. Typically used for system shutdown or clock throttling. Can be pulled up to 5.5V regardless of VCC. Open circuit when VCC = 0.", 8 VCC (power) "Power-Supply Input. 3.3V nominal. Bypass VCC to GND with a 0.1uF capacitor.", 9 DXP1 "Combined Current Source and A/D Positive Input for Remote Diode. Connect to anode of remote-diode-connected temperture-sensing transistor. Do not leave unconnected; connect to DXN if no remote diode is used. Place a 2200pF (See Datasheet)", 10 GND (power) "Ground. Connect to a clean ground reference.", 11 DXN "Remote Diode Current Sink Input. Connect Cathode of the Remote-Diode- Connected Transistor to DXN", 12 DXP2 "Combined Current Source and A/D Positive Input for Remote Diode. Connect to anode of remote-diode-connected temperture-sensing transistor. Do not leave unconnected; connect to DXN if no remote diode is used. Place a 2200pF (See Datasheet)", 13 ADD (in) "Address Input. Sets device slave address. Connect to GND, VCC, or leave unconnected to give three unique addresses. See Table 1.", 14 ~{ALERT} (oc) "Active-Low, Open-Drain SMBus Alert Output", 15 SDA (io) "SMBus Serial-Data Input/Output, Open Drain. Can be pulled up to 5.5V regardless of VCC. Open circuit when VCC = 0.", 16 SCL (in) "SMBus Serial-Clock Input. Can be pulled up to 5.5V regardless of VCC. Open circuit when VCC = 0."

## MAX6641AUB90
designator U?
SMBus-Compatible Temperature Monitor with Automatic PWM Fan-Speed Controller, -40 to 125 degC, 10-Pin SOP (U10-2); Generic Part Number: MAX6641; PartNumber: MAX6641AUB90; Interface: 2-Wire/I2C/SMBus; DatasheetVersion: Rev. 1; PackageVersion: Rev. L, 07/2008; PackageReference: U10-2; PackageDescription: 10-Pin Micro-MAX, Thin Shrink Small-Outline (U10-2), Body 3 x 3 mm, Pitch 0.5 mm; Supplier 1: Mouser; Supplier Part Number 1: N/A; Fan Cntrl.: PWM; Mounting Technology: Surface Mount; Code_JEDEC: MO-187; ComponentLink1Description: Manufacturer URL; ComponentLink1URL: http://www.maximintegrated.com/; ComponentLink2Description: Datasheet; ComponentLink2URL: http://datasheets.maximintegrated.com/en/ds/MAX6641.pdf; ComponentLink3Description: Package Specification; ComponentLink3URL: http://pdfserv.maximintegrated.com/package_dwgs/21-0061.PDF
footprint MAXM-U10-2_N (SOP, 10-Leads, Body 3x3mm, Pitch 0.5mm, IPC Medium Density)
footprint MAXM-U10-2_L (SOP, 10-Leads, Body 3x3mm, Pitch 0.5mm, IPC High Density)
footprint MAXM-U10-2_M (SOP, 10-Leads, Body 3x3mm, Pitch 0.5mm, IPC Low Density)
pins: 1 IC (power) "Internally Connected. Must be connected to GND.", 2 DXN "Combined Remote-Diode Cathode Connection and A/D Negative Input. Connect the cathode of the remote-diode-connected transistor to DXN.", 3 DXP "Combined Remote-Diode Current Source and A/D Positive Input for Remote-Diode Channel. Connect DXP to the anode of a remote-diode-connected temperature-sensing transistor. DO NOT EAVE DXP FLOATING; connect to DXN if no remote (See Datasheet)", 4 GND (power) "Ground", 5 ~{OT} (hiz) "Active-Low, Open-Drain, Over-Temperature Output. Use O\T\ as an interrupt, a system shutdown signal, or to control clock throttling. O\T\ can be pulled up to 5.5V, regardless of the voltage on VCC. O\T\ is high impedance (See Datasheet)", 6 IC (power) "Internally Connected. Must be connected to GND.", 7 SMBCLK (in) "SMBus Serial-Clock Input. SMBCLK can be pulled up to 5.5V, regardless of VCC. Open drain.SMBCLK is high impedance when VCC = 0.", 8 SMBDATA (io) "SMBus Serial-Data Input/Output. SMBDATA can be pulled up to 5.5V, regardless of VCC. Open drain. SMBDATA is high impedance when VCC = 0.", 9 VCC (power) "Positive Supply. Bypass with a 0.1uF capacitor to GND.", 10 PWMOUT (out) "PWM Output to Fan Power Transistor. Connect PWMOUT to the gate of a MOSFET or the base of a bipolar transistor to drive the fan’s power supply with a PWM waveform. Alternatively, the PWM output can be connected to the PWM (See Datasheet)"

## MAX6641AUB90+
designator U?
SMBus-Compatible Temperature Monitor with Automatic PWM Fan-Speed Controller, -40 to 125 degC, 10-Pin SOP (U10+2), Pb-Free; Generic Part Number: MAX6641; PartNumber: MAX6641AUB90+; Interface: 2-Wire/I2C/SMBus; DatasheetVersion: Rev. 1; PackageVersion: Rev. L, 07/2008; PackageReference: U10+2; PackageDescription: 10-Pin Micro-MAX, Thin Shrink Small-Outline (U10+2), Body 3 x 3 mm, Pitch 0.5 mm; Supplier 1: Digi-Key; Supplier Part Number 1: MAX6641AUB90+-ND; Supplier 2: Mouser; Supplier Part Number 2: 700-MAX6641AUB90; Fan Cntrl.: PWM; Mounting Technology: Surface Mount; Code_JEDEC: MO-187; ComponentLink1Description: Manufacturer URL; ComponentLink1URL: http://www.maximintegrated.com/; ComponentLink2Description: Datasheet; ComponentLink2URL: http://datasheets.maximintegrated.com/en/ds/MAX6641.pdf; ComponentLink3Description: Package Specification; ComponentLink3URL: http://pdfserv.maximintegrated.com/package_dwgs/21-0061.PDF
footprint MAXM-U10+2_N (SOP, 10-Leads, Body 3x3mm, Pitch 0.5mm, IPC Medium Density)
footprint MAXM-U10+2_L (SOP, 10-Leads, Body 3x3mm, Pitch 0.5mm, IPC High Density)
footprint MAXM-U10+2_M (SOP, 10-Leads, Body 3x3mm, Pitch 0.5mm, IPC Low Density)
pins: 1 IC (power) "Internally Connected. Must be connected to GND.", 2 DXN "Combined Remote-Diode Cathode Connection and A/D Negative Input. Connect the cathode of the remote-diode-connected transistor to DXN.", 3 DXP "Combined Remote-Diode Current Source and A/D Positive Input for Remote-Diode Channel. Connect DXP to the anode of a remote-diode-connected temperature-sensing transistor. DO NOT EAVE DXP FLOATING; connect to DXN if no remote (See Datasheet)", 4 GND (power) "Ground", 5 ~{OT} (hiz) "Active-Low, Open-Drain, Over-Temperature Output. Use O\T\ as an interrupt, a system shutdown signal, or to control clock throttling. O\T\ can be pulled up to 5.5V, regardless of the voltage on VCC. O\T\ is high impedance (See Datasheet)", 6 IC (power) "Internally Connected. Must be connected to GND.", 7 SMBCLK (in) "SMBus Serial-Clock Input. SMBCLK can be pulled up to 5.5V, regardless of VCC. Open drain.SMBCLK is high impedance when VCC = 0.", 8 SMBDATA (io) "SMBus Serial-Data Input/Output. SMBDATA can be pulled up to 5.5V, regardless of VCC. Open drain. SMBDATA is high impedance when VCC = 0.", 9 VCC (power) "Positive Supply. Bypass with a 0.1uF capacitor to GND.", 10 PWMOUT (out) "PWM Output to Fan Power Transistor. Connect PWMOUT to the gate of a MOSFET or the base of a bipolar transistor to drive the fan’s power supply with a PWM waveform. Alternatively, the PWM output can be connected to the PWM (See Datasheet)"

## MAX6641AUB90+T
designator U?
SMBus-Compatible Temperature Monitor with Automatic PWM Fan-Speed Controller, -40 to 125 degC, 10-Pin SOP (U10+2), Pb-Free, Tape and Reel; Generic Part Number: MAX6641; PartNumber: MAX6641AUB90+T; Interface: 2-Wire/I2C/SMBus; DatasheetVersion: Rev. 1; PackageVersion: Rev. L, 07/2008; PackageReference: U10+2; PackageDescription: 10-Pin Micro-MAX, Thin Shrink Small-Outline (U10+2), Body 3 x 3 mm, Pitch 0.5 mm; Supplier 1: Digi-Key; Supplier Part Number 1: MAX6641AUB90+T-ND; Supplier 2: Mouser; Supplier Part Number 2: 700-MAX6641AUB90+T; Fan Cntrl.: PWM; Packing: Tape and Reel; Mounting Technology: Surface Mount; Code_JEDEC: MO-187; ComponentLink1Description: Manufacturer URL; ComponentLink1URL: http://www.maximintegrated.com/; ComponentLink2Description: Datasheet; ComponentLink2URL: http://datasheets.maximintegrated.com/en/ds/MAX6641.pdf; ComponentLink3Description: Package Specification; ComponentLink3URL: http://pdfserv.maximintegrated.com/package_dwgs/21-0061.PDF
footprint MAXM-U10+2_N (SOP, 10-Leads, Body 3x3mm, Pitch 0.5mm, IPC Medium Density)
footprint MAXM-U10+2_L (SOP, 10-Leads, Body 3x3mm, Pitch 0.5mm, IPC High Density)
footprint MAXM-U10+2_M (SOP, 10-Leads, Body 3x3mm, Pitch 0.5mm, IPC Low Density)
pins: 1 IC (power) "Internally Connected. Must be connected to GND.", 2 DXN "Combined Remote-Diode Cathode Connection and A/D Negative Input. Connect the cathode of the remote-diode-connected transistor to DXN.", 3 DXP "Combined Remote-Diode Current Source and A/D Positive Input for Remote-Diode Channel. Connect DXP to the anode of a remote-diode-connected temperature-sensing transistor. DO NOT EAVE DXP FLOATING; connect to DXN if no remote (See Datasheet)", 4 GND (power) "Ground", 5 ~{OT} (hiz) "Active-Low, Open-Drain, Over-Temperature Output. Use O\T\ as an interrupt, a system shutdown signal, or to control clock throttling. O\T\ can be pulled up to 5.5V, regardless of the voltage on VCC. O\T\ is high impedance (See Datasheet)", 6 IC (power) "Internally Connected. Must be connected to GND.", 7 SMBCLK (in) "SMBus Serial-Clock Input. SMBCLK can be pulled up to 5.5V, regardless of VCC. Open drain.SMBCLK is high impedance when VCC = 0.", 8 SMBDATA (io) "SMBus Serial-Data Input/Output. SMBDATA can be pulled up to 5.5V, regardless of VCC. Open drain. SMBDATA is high impedance when VCC = 0.", 9 VCC (power) "Positive Supply. Bypass with a 0.1uF capacitor to GND.", 10 PWMOUT (out) "PWM Output to Fan Power Transistor. Connect PWMOUT to the gate of a MOSFET or the base of a bipolar transistor to drive the fan’s power supply with a PWM waveform. Alternatively, the PWM output can be connected to the PWM (See Datasheet)"